# EAGLE library part LT3032 (library AWJLEagleLib)
LT3032 dual postive/negative LDO linear regulator
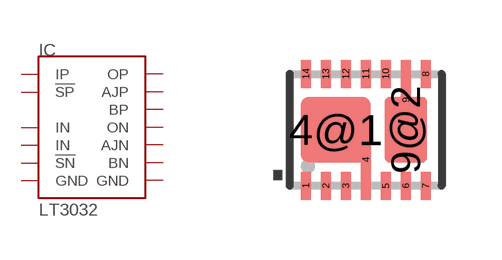
[diagram p17: symbol with the pads of DFN14-4X3DE; footprint DFN14-4X3DE]

Designator prefix IC

## LT3032  [DFN14-4X3DE]
1  OP  pwr
2  AJP
3  BP
4  GND  pwr
5  GND  pwr
6  IN  pwr
7  ON  pwr
8  AJN
9  IN  pwr
10  !SN
11  BN
12  !SP
14  IP  pwr

## Footprint DFN14-4X3DE (pad centres in mm)
smd 0.25 x 0.7: 1 -1.5,-1.4; 2 -1,-1.4; 3 -0.5,-1.4; 5 0.5,-1.4; 6 1,-1.4; 7 1.5,-1.4; 8 1.5,1.4; 10 0.5,1.4; 11 0,1.4; 12 -0.5,1.4; 13 -1,1.4; 14 -1.5,1.4
smd 0.25 x 2: 4 0,-0.75; 9 1,0.75
smd 1.75 x 1.65: 4@1 -0.75,0
smd 1.07 x 1.65: 9@2 1,0